# Altium integrated library PHD.IntLib: 19 symbols
Pins are listed as number, name and electrical type; pins without a type are passive.

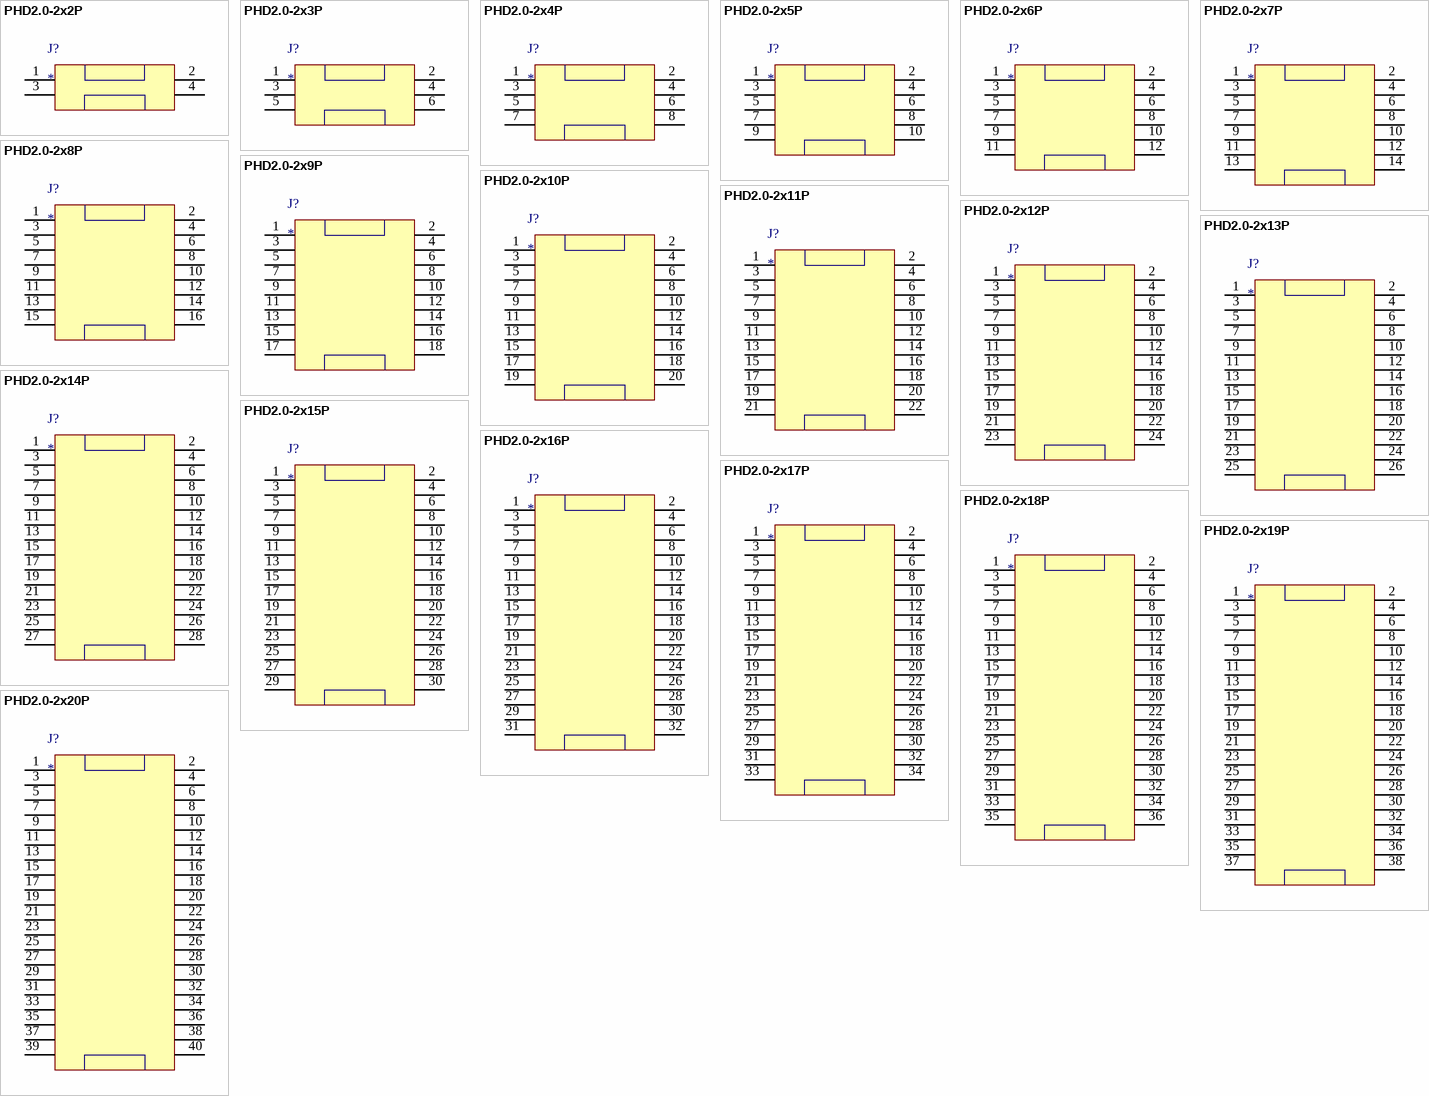
[diagram p0: symbols PHD2.0-2x2P to PHD2.0-2x20P]

## PHD2.0-2x2P
designator J?
footprint PHD2.0-2x2P
pins: 1, 2, 3, 4

## PHD2.0-2x3P
designator J?
footprint PHD2.0-2x3P
pins: 1, 2, 3, 4, 5, 6

## PHD2.0-2x4P
designator J?
footprint PHD2.0-2x4P
pins: 1, 2, 3, 4, 5, 6, 7, 8

## PHD2.0-2x5P
designator J?
footprint PHD2.0-2x5P
pins: 1, 2, 3, 4, 5, 6, 7, 8, 9, 10

## PHD2.0-2x6P
designator J?
footprint PHD2.0-2x6P
pins: 1, 2, 3, 4, 5, 6, 7, 8, 9, 10, 11, 12

## PHD2.0-2x7P
designator J?
footprint PHD2.0-2x7P
pins: 1, 2, 3, 4, 5, 6, 7, 8, 9, 10, 11, 12, 13, 14

## PHD2.0-2x8P
designator J?
footprint PHD2.0-2x8P
pins: 1, 2, 3, 4, 5, 6, 7, 8, 9, 10, 11, 12, 13, 14, 15, 16

## PHD2.0-2x9P
designator J?
footprint PHD2.0-2x9P
pins: 1, 2, 3, 4, 5, 6, 7, 8, 9, 10, 11, 12, 13, 14, 15, 16, 17, 18

## PHD2.0-2x10P
designator J?
footprint PHD2.0-2x10P
pins: 1, 2, 3, 4, 5, 6, 7, 8, 9, 10, 11, 12, 13, 14, 15, 16, 17, 18, 19, 20

## PHD2.0-2x11P
designator J?
footprint PHD2.0-2x11P
pins: 1, 2, 3, 4, 5, 6, 7, 8, 9, 10, 11, 12, 13, 14, 15, 16, 17, 18, 19, 20, 21, 22

## PHD2.0-2x12P
designator J?
footprint PHD2.0-2x12P
pins: 1, 2, 3, 4, 5, 6, 7, 8, 9, 10, 11, 12, 13, 14, 15, 16, 17, 18, 19, 20, 21, 22, 23, 24

## PHD2.0-2x13P
designator J?
footprint PHD2.0-2x13P
pins: 1, 2, 3, 4, 5, 6, 7, 8, 9, 10, 11, 12, 13, 14, 15, 16, 17, 18, 19, 20, 21, 22, 23, 24, 25, 26

## PHD2.0-2x14P
designator J?
footprint PHD2.0-2x14P
pins: 1, 2, 3, 4, 5, 6, 7, 8, 9, 10, 11, 12, 13, 14, 15, 16, 17, 18, 19, 20, 21, 22, 23, 24, 25, 26, 27, 28

## PHD2.0-2x15P
designator J?
footprint PHD2.0-2x15P
pins: 1, 2, 3, 4, 5, 6, 7, 8, 9, 10, 11, 12, 13, 14, 15, 16, 17, 18, 19, 20, 21, 22, 23, 24, 25, 26, 27, 28, 29, 30

## PHD2.0-2x16P
designator J?
footprint PHD2.0-2x16P
pins: 1, 2, 3, 4, 5, 6, 7, 8, 9, 10, 11, 12, 13, 14, 15, 16, 17, 18, 19, 20, 21, 22, 23, 24, 25, 26, 27, 28, 29, 30, 31, 32

## PHD2.0-2x17P
designator J?
footprint PHD2.0-2x17P
pins: 1, 2, 3, 4, 5, 6, 7, 8, 9, 10, 11, 12, 13, 14, 15, 16, 17, 18, 19, 20, 21, 22, 23, 24, 25, 26, 27, 28, 29, 30, 31, 32, 33, 34

## PHD2.0-2x18P
designator J?
footprint PHD2.0-2x18P
pins: 1, 2, 3, 4, 5, 6, 7, 8, 9, 10, 11, 12, 13, 14, 15, 16, 17, 18, 19, 20, 21, 22, 23, 24, 25, 26, 27, 28, 29, 30, 31, 32, 33, 34, 35, 36

## PHD2.0-2x19P
designator J?
footprint PHD2.0-2x19P
pins: 1, 2, 3, 4, 5, 6, 7, 8, 9, 10, 11, 12, 13, 14, 15, 16, 17, 18, 19, 20, 21, 22, 23, 24, 25, 26, 27, 28, 29, 30, 31, 32, 33, 34, 35, 36, 37, 38

## PHD2.0-2x20P
designator J?
footprint PHD2.0-2x20P
pins: 1, 2, 3, 4, 5, 6, 7, 8, 9, 10, 11, 12, 13, 14, 15, 16, 17, 18, 19, 20, 21, 22, 23, 24, 25, 26, 27, 28, 29, 30, 31, 32, 33, 34, 35, 36, 37, 38, 39, 40